# Altium footprint library Batarey_connector.PcbLib: 1 footprints
Each footprint in its own frame and in the unit in brackets; x right, y up, seen from the top. Pads: shape width x height; smd on the part's side, far side on the other; paste and mask are expansions set on the pad; w line width, h text height; cw(c..) or ccw(c..) is an arc to the next point about the centre after c.
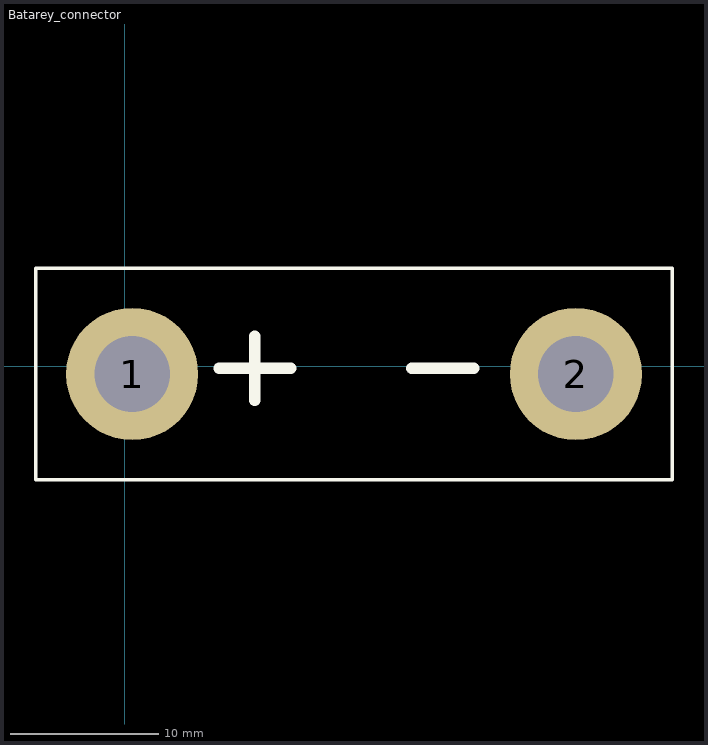
[diagram p0: the footprint, top view; thin cyan lines are the x and y axes]

## Batarey_connector [mil]
pads (2):
  round 350 hole 200: 1(20,-20) 2(1195,-20)
Top Overlay:
  lines w10: -235,-300 1450,-300 1450,260 -235,260 -235,-300
  lines w30: 250,-5 440,-5 ; 345,-90 345,80 ; 760,-5 925,-5
Bottom Overlay:
  lines w20: -235,-300 1450,-300 1450,255 -235,255 -235,-300
  lines w30: 245,-10 435,-10 ; 340,-95 340,75 ; 760,-5 925,-5